# EAGLE library part 1-794681-8 (library matt con-amp)
Micro MATE-N-LOK Connectors grid 1.5mm Dual Row Through Hole Vertical Metal Through Hole Holddowns Source: ENG_CD_794681_E.pdf
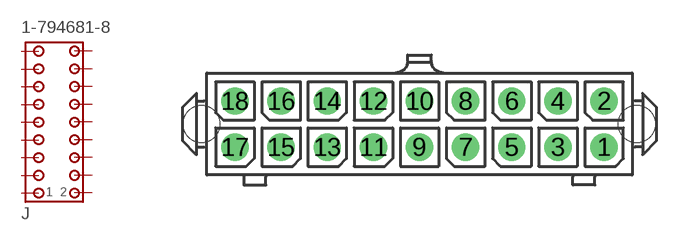
[diagram p154: symbol with the pads of 1-794681-8; footprint 1-794681-8]

Designator prefix J

## 1-794681-8  [1-794681-8]
1  1  pas
2  2  pas
3  3  pas
4  4  pas
5  5  pas
6  6  pas
7  7  pas
8  8  pas
9  9  pas
10  10  pas
11  11  pas
12  12  pas
13  13  pas
14  14  pas
15  15  pas
16  16  pas
17  17  pas
18  18  pas

## Footprint 1-794681-8 (pad centres in mm)
Micro MATE-N-LOK Connectors grid 1.5mm Dual Row Through Hole Vertical Metal Through Hole Holddowns Source: ENG_CD_794681_E.pdf
drill 1 pad 1.778 round: 1 12,-1.5; 2 12,1.5; 3 9,-1.5; 4 9,1.5; 5 6,-1.5; 6 6,1.5; 7 3,-1.5; 8 3,1.5; 9 0,-1.5; 10 0,1.5; 11 -3,-1.5; 12 -3,1.5; 13 -6,-1.5; 14 -6,1.5; 15 -9,-1.5; 16 -9,1.5; 17 -12,-1.5; 18 -12,1.5
hole 2.4 at 14.13,0
hole 2.4 at -14.17,0